# Altium footprint library SensorPCBA.PcbLib: 4 footprints
Each footprint in its own frame and in the unit in brackets; x right, y up, seen from the top. Pads: shape width x height; smd on the part's side, far side on the other; paste and mask are expansions set on the pad; w line width, h text height; cw(c..) or ccw(c..) is an arc to the next point about the centre after c.
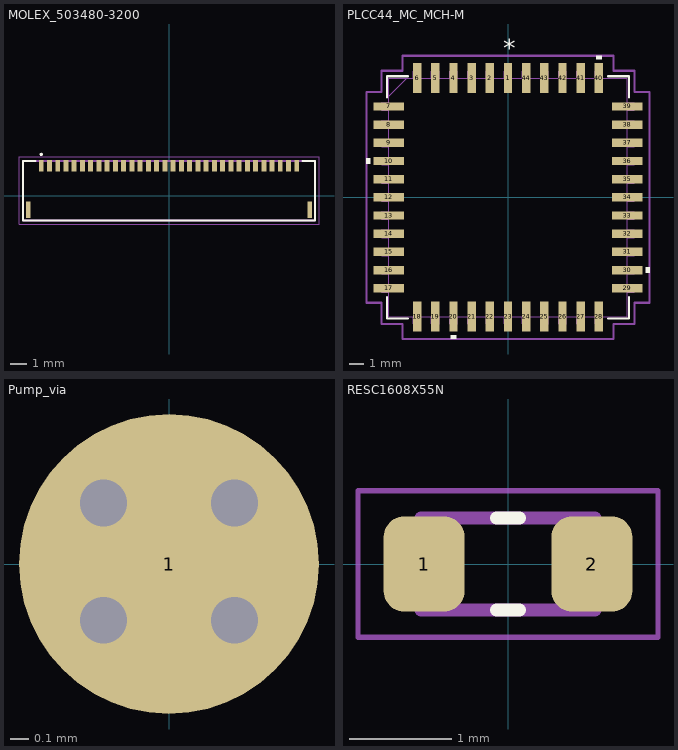
[diagram p0: the footprints below, top view; thin cyan lines are the x and y axes]

## MOLEX_503480-3200 [mm]
pads (34):
  rect 0.3x0.7 smd paste+0 mask+0.102: 1(-7.75,1.8) 2(-7.25,1.8) 3(-6.75,1.8) 4(-6.25,1.8) 5(-5.75,1.8) 6(-5.25,1.8) 7(-4.75,1.8) 8(-4.25,1.8) 9(-3.75,1.8) 10(-3.25,1.8) 11(-2.75,1.8) 12(-2.25,1.8) 13(-1.75,1.8) 14(-1.25,1.8) 15(-0.75,1.8) 16(-0.25,1.8) 17(0.25,1.8) 18(0.75,1.8) 19(1.25,1.8) 20(1.75,1.8) 21(2.25,1.8) 22(2.75,1.8) 23(3.25,1.8) 24(3.75,1.8) 25(4.25,1.8) 26(4.75,1.8) 27(5.25,1.8) 28(5.75,1.8) 29(6.25,1.8) 30(6.75,1.8) 31(7.25,1.8) 32(7.75,1.8)
  rect 0.3x1 smd paste+0 mask+0.102: SH1(-8.54,-0.85) SH2(8.54,-0.85)
Top Overlay:
  circle w0.1: c-7.75,2.5 r0.05
  lines w0.127: -8.1,2.1 -8.85,2.1 -8.85,-1.5 8.85,-1.5 8.85,2.1 8.1,2.1
Mechanical 13:
  lines w0.127: -8.85,-1.5 8.85,-1.5 8.85,2.1 -8.85,2.1 -8.85,-1.5
Mechanical 15:
  lines w0.05: -9.1,-1.75 9.1,-1.75 9.1,2.35 -9.1,2.35 -9.1,-1.75
3D body "5034803200.stp": height 1.85, standoff -0.02, extent -8.85,-1.45 8.85,2.15

## PLCC44_MC_MCH-M [mil]
pads (44):
  rect 23x83 smd paste+0 mask+0: 1(0,328) 2(-50,328) 3(-100,328) 4(-150,328) 5(-200,328) 6(-250,328) 18(-250,-328) 19(-200,-328) 20(-150,-328) 21(-100,-328) 22(-50,-328) 23(0,-328) 24(50,-328) 25(100,-328) 26(150,-328) 27(200,-328) 28(250,-328) 40(250,328) 41(200,328) 42(150,328) 43(100,328) 44(50,328)
  rect 83x23 smd paste+0 mask+0: 7(-328,250) 8(-328,200) 9(-328,150) 10(-328,100) 11(-328,50) 12(-328,0) 13(-328,-50) 14(-328,-100) 15(-328,-150) 16(-328,-200) 17(-328,-250) 29(328,-250) 30(328,-200) 31(328,-150) 32(328,-100) 33(328,-50) 34(328,0) 35(328,50) 36(328,100) 37(328,150) 38(328,200) 39(328,250)
Top Overlay:
  region: -379.5,107.5 -389.5,107.5 -389.5,92.5 -379.5,92.5
  region: -142.5,-379.5 -157.5,-379.5 -157.5,-389.5 -142.5,-389.5
  region: 379.5,-192.5 389.5,-192.5 389.5,-207.5 379.5,-207.5
  region: 257.5,379.5 242.5,379.5 242.5,389.5 257.5,389.5
  lines w6: -333,-274.6 -333,-333 -274.6,-333 ; -333,274.6 -333,333 -274.6,333 ; 274.6,-333 333,-333 333,-274.6 ; 274.6,333 333,333 333,274.6
  text "*" at -12.5,385.5 h50
  text ".Designator" at -137.5,-25 h50
Mechanical 13:
  drawing of 181 lines, arcs and shapes, not listed
  text ".Designator" at -137.5,-25 h50
  text "*" at -12.5,256.5 h50
Mechanical 15:
  lines w6: -389.5,-290 -348,-290 -348,-348 -290,-348 -290,-389.5 290,-389.5 290,-348 348,-348 348,-290 389.5,-290 389.5,290 348,290 348,348 290,348 290,389.5 -290,389.5 -290,348 -348,348 -348,290 -389.5,290 -389.5,-290
3D body "PLCC44_MC_MCH.step": height 180.12, standoff 0.12, extent -347.52,-347.52 347.52,347.52

## Pump_via [mm]
pads (5):
  round 1.6 smd mask+0.15: 1(0,0)
  round 0 hole 0.25 unplated mask+0.09: ""(-0.35,-0.3) ""(-0.35,0.325) ""(0.35,-0.3) ""(0.35,0.325)

## RESC1608X55N [mm]
pads (2):
  rrect50% 0.79x0.93 smd: 1(-0.82,0) 2(0.82,0)
Top Overlay:
  lines w0.127: -0.11,-0.45 0.11,-0.45 ; -0.11,0.45 0.11,0.45
Mechanical 13:
  lines w0.127: -0.85,-0.45 -0.85,0.45 0.85,0.45 0.85,-0.45 -0.85,-0.45
Mechanical 15:
  lines w0.05: -1.465,-0.715 -1.465,0.715 1.465,0.715 1.465,-0.715 -1.465,-0.715
3D body "step_temp.STEP": height 0.55, standoff 0, extent -0.8,-0.4 0.8,0.4